# Altium footprint library PCB - LEADLESS - QFN - TRINAMIC QFN28 TMC2209-LA.PcbLib: 1 footprints
Each footprint in its own frame and in the unit in brackets; x right, y up, seen from the top. Pads: shape width x height; smd on the part's side, far side on the other; paste and mask are expansions set on the pad; w line width, h text height; cw(c..) or ccw(c..) is an arc to the next point about the centre after c.
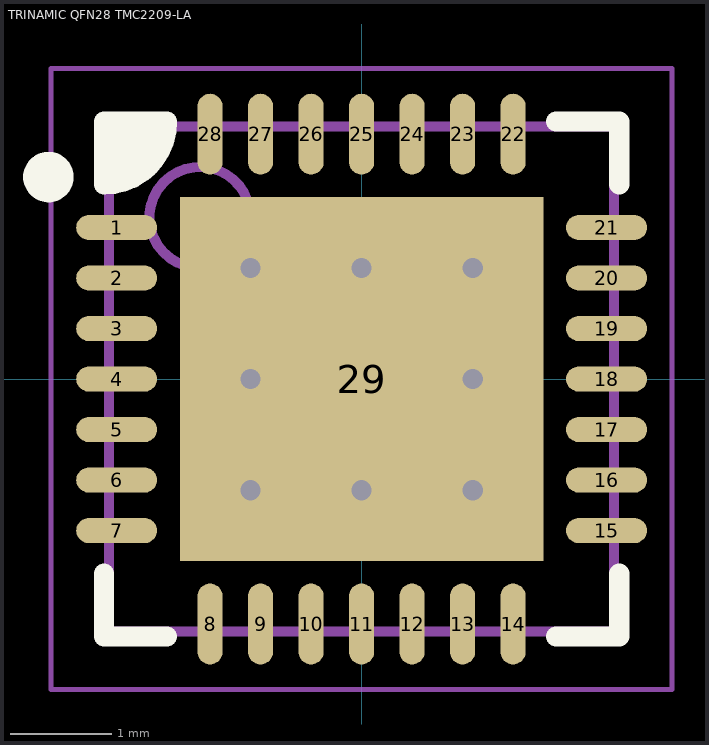
[diagram p0: the footprint, top view; thin cyan lines are the x and y axes]

## TRINAMIC QFN28 TMC2209-LA [mm] "QFN, 28-Leads, Body 5.00x5.00mm, Pitch 0.50mm, Thermal Pad 3.70x3.70mm, IPC Medium Density"
height 0.9
pads (29):
  oval 0.8x0.25 smd: 1(-2.425,1.5) 2(-2.425,1) 3(-2.425,0.5) 4(-2.425,0) 5(-2.425,-0.5) 6(-2.425,-1) 7(-2.425,-1.5) 15(2.425,-1.5) 16(2.425,-1) 17(2.425,-0.5) 18(2.425,0) 19(2.425,0.5) 20(2.425,1) 21(2.425,1.5)
  oval 0.25x0.8 smd: 8(-1.5,-2.425) 9(-1,-2.425) 10(-0.5,-2.425) 11(0,-2.425) 12(0.5,-2.425) 13(1,-2.425) 14(1.5,-2.425) 22(1.5,2.425) 23(1,2.425) 24(0.5,2.425) 25(0,2.425) 26(-0.5,2.425) 27(-1,2.425) 28(-1.5,2.425)
  rect 3.6x3.6 smd paste-2 mask+0.102: 29(0,0)
via -1.1,1.1 diameter 0.5 hole 0.2
via 0,1.1 diameter 0.5 hole 0.2
via 1.1,1.1 diameter 0.5 hole 0.2
via -1.1,0 diameter 0.5 hole 0.2
via 1.1,0 diameter 0.5 hole 0.2
via -1.1,-1.1 diameter 0.5 hole 0.2
via 0,-1.1 diameter 0.5 hole 0.2
via 1.1,-1.1 diameter 0.5 hole 0.2
Top Overlay:
  circle w0.25: c-3.1,2 r0.125
  region: -2.55,2.55 -1.925,2.55 -1.925,2.375 -1.925,2.32 -1.967,2.219 -2.044,2.142 -2.145,2.1 -2.2,2.1 -2.2,2.065 -2.227,2.001 -2.276,1.952 -2.34,1.925 -2.375,1.925 -2.55,1.925
  lines w0.2: -2.55,-1.925 -2.55,-2.55 -1.925,-2.55 ; 1.925,-2.55 2.55,-2.55 2.55,-1.925 ; 1.925,2.55 2.55,2.55 2.55,1.925 ; -2.55,1.925 ccw(c-2.55,2.55) -1.925,2.55 -2.55,2.55 -2.55,1.925
Top Paste:
  rectangle: -1.7,-0.8 -0.9,-0.3
  region: 1.7,-0.3 0.9,-0.3 0.9,-0.8 1.7,-0.8
  rectangle: -1.7,0.3 -0.9,0.8
  region: 1.7,0.8 0.9,0.8 0.9,0.3 1.7,0.3
  region: -0.3,-1.7 -0.3,-0.9 -0.8,-0.9 -0.8,-1.7
  region: -0.8,1.7 -0.8,0.9 -0.3,0.9 -0.3,1.7
  region: 0.791,-1.718 0.791,-0.918 0.291,-0.918 0.291,-1.718
  region: 0.291,1.682 0.291,0.882 0.791,0.882 0.791,1.682
  rectangle: -0.6,-0.6 0.6,0.6
Top Solder:
  region: -1.8,-0.8 -1.1,-0.8 -1.041,-0.806 -0.933,-0.851 -0.851,-0.933 -0.806,-1.041 -0.8,-1.1 -0.8,-1.8 -0.3,-1.8 -0.3,-1.1 -0.294,-1.041 -0.249,-0.933 -0.167,-0.851 -0.059,-0.806 0,-0.8 0.059,-0.806 0.167,-0.851 0.249,-0.933 0.294,-1.041 0.3,-1.1 0.3,-1.8 0.8,-1.8 0.8,-1.1 0.806,-1.041 0.851,-0.933 0.933,-0.851 1.041,-0.806 1.1,-0.8 1.8,-0.8 1.8,-0.3 1.1,-0.3 1.041,-0.294 0.933,-0.249 0.851,-0.167 0.806,-0.059 0.8,0 0.806,0.059 0.851,0.167 0.933,0.249 1.041,0.294 1.1,0.3 1.8,0.3 1.8,0.8 1.1,0.8 1.041,0.806 0.933,0.851 0.851,0.933 0.806,1.041 0.8,1.1 0.8,1.8 0.3,1.8 0.3,1.1 0.294,1.041 0.249,0.933 0.167,0.851 0.059,0.806 0,0.8 -0.059,0.806 -0.167,0.851 -0.249,0.933 -0.294,1.041 -0.3,1.1 -0.3,1.8 -0.8,1.8 -0.8,1.1 -0.806,1.041 -0.851,0.933 -0.933,0.851 -1.041,0.806 -1.1,0.8 -1.8,0.8 -1.8,0.3 -1.1,0.3 -1.041,0.294 -0.933,0.249 -0.851,0.167 -0.806,0.059 -0.8,0 -0.806,-0.059 -0.851,-0.167 -0.933,-0.249 -1.041,-0.294 -1.1,-0.3 -1.8,-0.3
  lines w0.05: -1.8,-0.8 -1.1,-0.8 cw(c-1.1,-1.1) -0.8,-1.1 -0.8,-1.8 -0.3,-1.8 -0.3,-1.1 cw(c0,-1.1) 0,-0.8 cw(c0,-1.1) 0.3,-1.1 0.3,-1.8 0.8,-1.8 0.8,-1.1 cw(c1.1,-1.1) 1.1,-0.8 1.8,-0.8 1.8,-0.3 1.1,-0.3 cw(c1.1,0) 0.8,0 cw(c1.1,0) 1.1,0.3 1.8,0.3 1.8,0.8 1.1,0.8 cw(c1.1,1.1) 0.8,1.1 0.8,1.8 0.3,1.8 0.3,1.1 cw(c0,1.1) 0,0.8 cw(c0,1.1) -0.3,1.1 -0.3,1.8 -0.8,1.8 -0.8,1.1 cw(c-1.1,1.1) -1.1,0.8 -1.8,0.8 -1.8,0.3 -1.1,0.3 cw(c-1.1,0) -0.8,0 cw(c-1.1,0) -1.1,-0.3 -1.8,-0.3 -1.8,-0.8
Mechanical 13:
  circle w0.1: c-1.6,1.6 r0.5
  lines w0.1: -2.5,-2.5 -2.5,2.5 2.5,2.5 2.5,-2.5 -2.5,-2.5
Mechanical 15:
  lines w0.05: -3.075,-3.075 -3.075,3.075 3.075,3.075 3.075,-3.075 -3.075,-3.075
  lines w0.1: -0.5,0 0.5,0 ; 0,-0.5 0,0.5
3D body "TRINAMIC QFN28 TMC2209-LA.step": height 0.9, standoff 0, extent -2.501,-2.501 2.501,2.501